# Altium schematic symbol library SML-LX1610.SchLib: 1 symbol
Pins are listed as number, name and electrical type; pins without a type are passive.

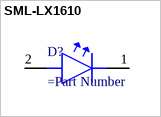
[diagram p0: symbol SML-LX1610]

## SML-LX1610
designator D?
=Description
pins: 1, 2